# Altium schematic symbol library PCB_Fungnator.SchLib: 3 symbols
Pins are listed as number, name and electrical type; pins without a type are passive.

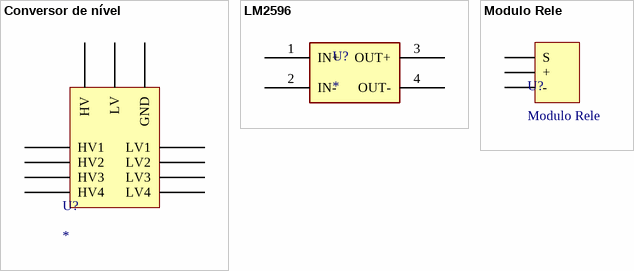
[diagram p0: symbols Conversor de nível to Modulo Rele]

## Conversor de nível
designator U?
footprint Conversor_Nivel
pins: 1 LV1, 2 LV2, 3 LV, 4 GND, 5 LV3, 6 LV4, 7 HV1, 8 HV2, 9 HV, 11 HV3, 12 HV4

## LM2596
designator U?
footprint LM2596 (LM2596 module)
pins: 1 IN+, 2 IN-, 3 OUT+, 4 OUT-

## Modulo Rele
designator U?
footprint MODULO_RELE
pins: 1 S, 2 +, 3 -